# Altium schematic symbol library 3D_MIG_Controller.SCHLIB: 528 symbols (part 2 of 6)
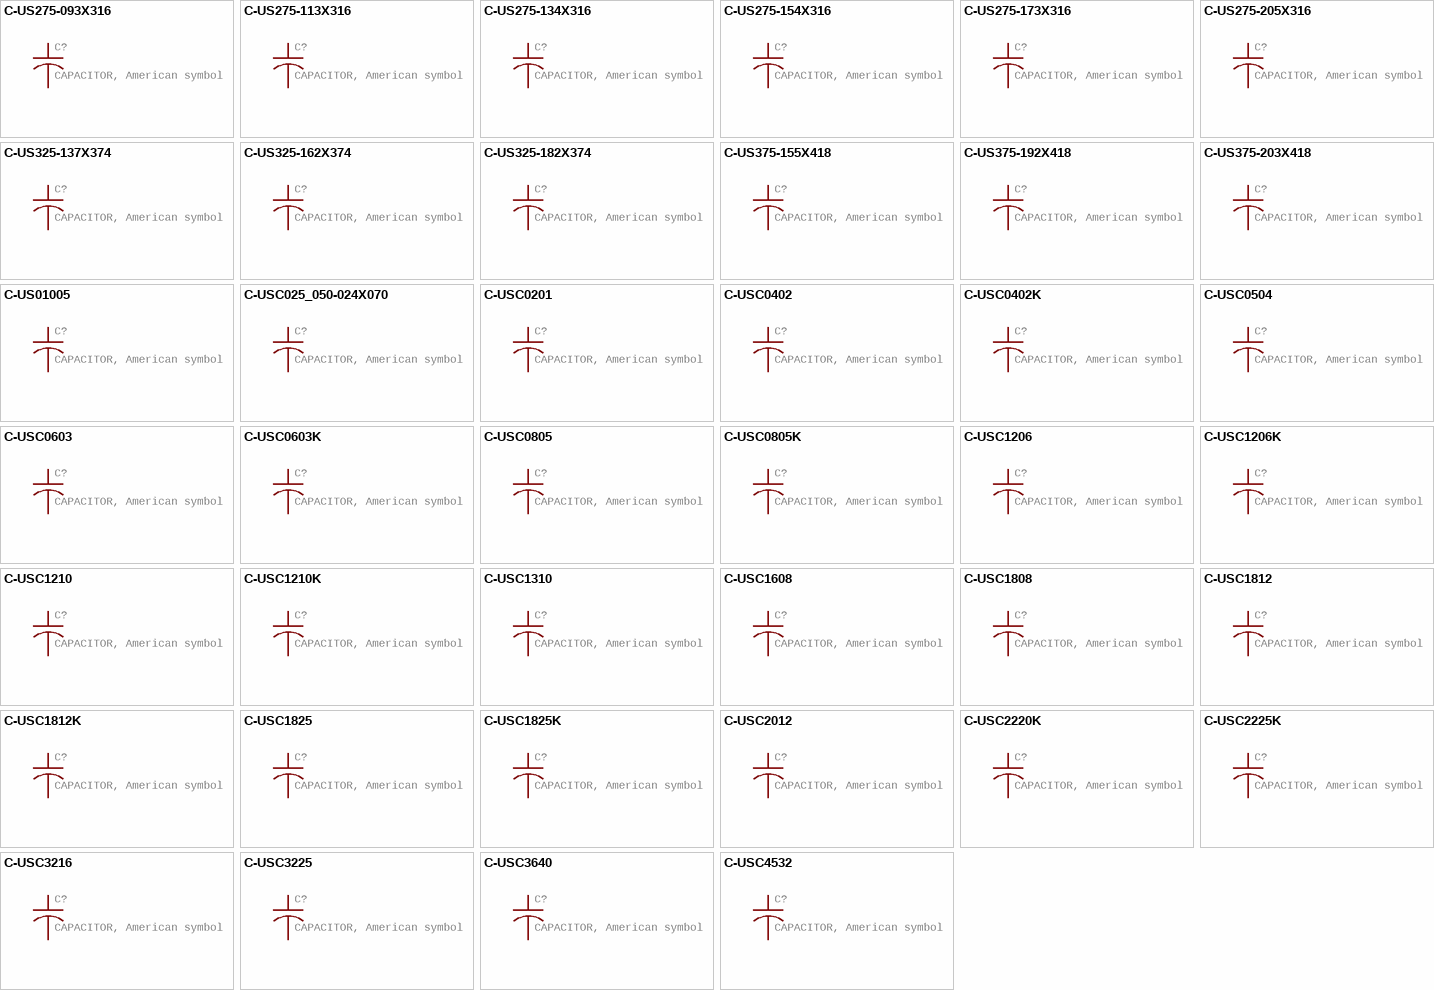
[diagram p33: symbols C-US275-093X316 to C-USC4532]

## C-USC0504
designator C?, comment CAPACITOR, American symbol
GateName_1: G$1; SymbolName_1: C-US-1; DeviceName: C0504; DeviceSetName: C-US; LibraryName: 3D_MIG_Controller; Package: C0504
footprint C0504
pins: 1, 2

## C-USC0603
designator C?, comment CAPACITOR, American symbol
GateName_1: G$1; SymbolName_1: C-US-1; DeviceName: C0603; DeviceSetName: C-US; LibraryName: 3D_MIG_Controller; Package: C0603
footprint C0603
pins: 1, 2

## C-USC0603K
designator C?, comment CAPACITOR, American symbol
GateName_1: G$1; SymbolName_1: C-US-1; DeviceName: C0603K; DeviceSetName: C-US; LibraryName: 3D_MIG_Controller; Package: C0603K
footprint C0603K
pins: 1, 2

## C-USC0805
designator C?, comment CAPACITOR, American symbol
GateName_1: G$1; SymbolName_1: C-US-1; DeviceName: C0805; DeviceSetName: C-US; LibraryName: 3D_MIG_Controller; Package: C0805
footprint C0805
pins: 1, 2

## C-USC0805K
designator C?, comment CAPACITOR, American symbol
GateName_1: G$1; SymbolName_1: C-US-1; DeviceName: C0805K; DeviceSetName: C-US; LibraryName: 3D_MIG_Controller; Package: C0805K
footprint C0805K
pins: 1, 2

## C-USC1206
designator C?, comment CAPACITOR, American symbol
GateName_1: G$1; SymbolName_1: C-US-1; DeviceName: C1206; DeviceSetName: C-US; LibraryName: 3D_MIG_Controller; Package: C1206
footprint C1206
pins: 1, 2

## C-USC1206K
designator C?, comment CAPACITOR, American symbol
GateName_1: G$1; SymbolName_1: C-US-1; DeviceName: C1206K; DeviceSetName: C-US; LibraryName: 3D_MIG_Controller; Package: C1206K
footprint C1206K
pins: 1, 2

## C-USC1210
designator C?, comment CAPACITOR, American symbol
GateName_1: G$1; SymbolName_1: C-US-1; DeviceName: C1210; DeviceSetName: C-US; LibraryName: 3D_MIG_Controller; Package: C1210
footprint C1210
pins: 1, 2

## C-USC1210K
designator C?, comment CAPACITOR, American symbol
GateName_1: G$1; SymbolName_1: C-US-1; DeviceName: C1210K; DeviceSetName: C-US; LibraryName: 3D_MIG_Controller; Package: C1210K
footprint C1210K
pins: 1, 2

## C-USC1310
designator C?, comment CAPACITOR, American symbol
GateName_1: G$1; SymbolName_1: C-US-1; DeviceName: C1310; DeviceSetName: C-US; LibraryName: 3D_MIG_Controller; Package: C1310
footprint C1310
pins: 1, 2

## C-USC1608
designator C?, comment CAPACITOR, American symbol
GateName_1: G$1; SymbolName_1: C-US-1; DeviceName: C1608; DeviceSetName: C-US; LibraryName: 3D_MIG_Controller; Package: C1608
footprint C1608
pins: 1, 2

## C-USC1808
designator C?, comment CAPACITOR, American symbol
GateName_1: G$1; SymbolName_1: C-US-1; DeviceName: C1808; DeviceSetName: C-US; LibraryName: 3D_MIG_Controller; Package: C1808
footprint C1808
pins: 1, 2

## C-USC1812
designator C?, comment CAPACITOR, American symbol
GateName_1: G$1; SymbolName_1: C-US-1; DeviceName: C1812; DeviceSetName: C-US; LibraryName: 3D_MIG_Controller; Package: C1812
footprint C1812
pins: 1, 2

## C-USC1812K
designator C?, comment CAPACITOR, American symbol
GateName_1: G$1; SymbolName_1: C-US-1; DeviceName: C1812K; DeviceSetName: C-US; LibraryName: 3D_MIG_Controller; Package: C1812K
footprint C1812K
pins: 1, 2

## C-USC1825
designator C?, comment CAPACITOR, American symbol
GateName_1: G$1; SymbolName_1: C-US-1; DeviceName: C1825; DeviceSetName: C-US; LibraryName: 3D_MIG_Controller; Package: C1825
footprint C1825
pins: 1, 2

## C-USC1825K
designator C?, comment CAPACITOR, American symbol
GateName_1: G$1; SymbolName_1: C-US-1; DeviceName: C1825K; DeviceSetName: C-US; LibraryName: 3D_MIG_Controller; Package: C1825K
footprint C1825K
pins: 1, 2

## C-USC2012
designator C?, comment CAPACITOR, American symbol
GateName_1: G$1; SymbolName_1: C-US-1; DeviceName: C2012; DeviceSetName: C-US; LibraryName: 3D_MIG_Controller; Package: C2012
footprint C2012
pins: 1, 2

## C-USC2220K
designator C?, comment CAPACITOR, American symbol
GateName_1: G$1; SymbolName_1: C-US-1; DeviceName: C2220K; DeviceSetName: C-US; LibraryName: 3D_MIG_Controller; Package: C2220K
footprint C2220K
pins: 1, 2

## C-USC2225K
designator C?, comment CAPACITOR, American symbol
GateName_1: G$1; SymbolName_1: C-US-1; DeviceName: C2225K; DeviceSetName: C-US; LibraryName: 3D_MIG_Controller; Package: C2225K
footprint C2225K
pins: 1, 2

## C-USC3216
designator C?, comment CAPACITOR, American symbol
GateName_1: G$1; SymbolName_1: C-US-1; DeviceName: C3216; DeviceSetName: C-US; LibraryName: 3D_MIG_Controller; Package: C3216
footprint C3216
pins: 1, 2

## C-USC3225
designator C?, comment CAPACITOR, American symbol
GateName_1: G$1; SymbolName_1: C-US-1; DeviceName: C3225; DeviceSetName: C-US; LibraryName: 3D_MIG_Controller; Package: C3225
footprint C3225
pins: 1, 2

## C-USC3640
designator C?, comment CAPACITOR, American symbol
GateName_1: G$1; SymbolName_1: C-US-1; DeviceName: C3640; DeviceSetName: C-US; LibraryName: 3D_MIG_Controller; Package: C3640
footprint C3640
pins: 1, 2

## C-USC4532
designator C?, comment CAPACITOR, American symbol
GateName_1: G$1; SymbolName_1: C-US-1; DeviceName: C4532; DeviceSetName: C-US; LibraryName: 3D_MIG_Controller; Package: C4532
footprint C4532
pins: 1, 2

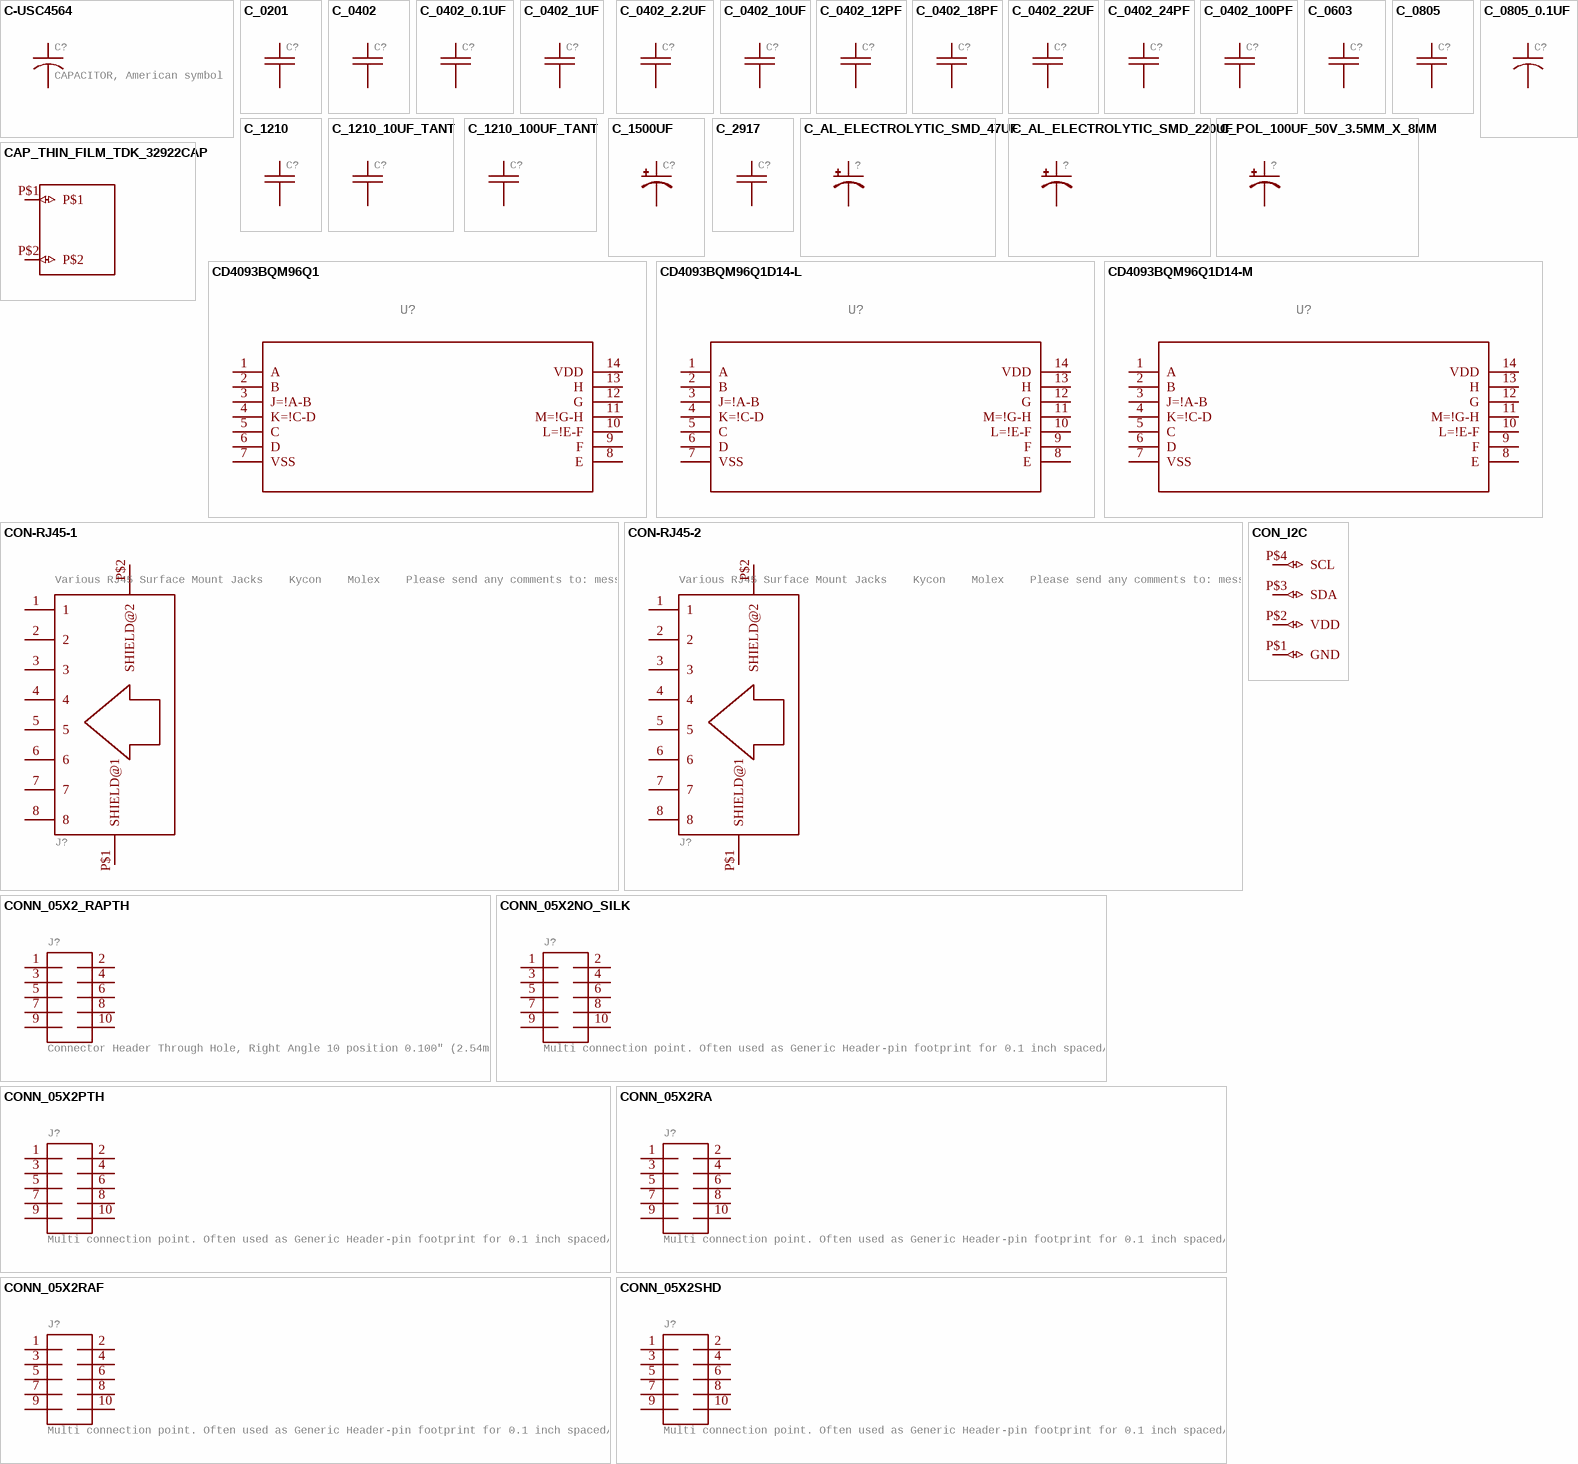
[diagram p6: symbols C-USC4564 to CONN_05X2SHD]

## C-USC4564
designator C?, comment CAPACITOR, American symbol
GateName_1: G$1; SymbolName_1: C-US-1; DeviceName: C4564; DeviceSetName: C-US; LibraryName: 3D_MIG_Controller; Package: C4564
footprint C4564
pins: 1, 2

## C_0201
designator C?
PARTNO: a1; GateName_1: G$1; SymbolName_1: CAP_NON_POLARIZED; DeviceSetName: C_0201; LibraryName: 3D_MIG_Controller; Package: 0201
footprint 0201
pins: P$1 1, P$2 2

## C_0402
designator C?
GateName_1: G$1; SymbolName_1: CAP_NON_POLARIZED; DeviceSetName: C_0402; LibraryName: 3D_MIG_Controller; Package: 0402
footprint 0402
pins: P$1 1, P$2 2

## C_0402_0.1UF
designator C?
PARTNO: CL05F104ZO5NNNC; GateName_1: G$1; SymbolName_1: CAP_NON_POLARIZED; DeviceSetName: C_0402_0.1UF; LibraryName: 3D_MIG_Controller; Package: 0402
footprint 0402
pins: P$1 1, P$2 2

## C_0402_1UF
designator C?
PARTNO: CL05A105KO5NNNC; GateName_1: G$1; SymbolName_1: CAP_NON_POLARIZED; DeviceSetName: C_0402_1UF; LibraryName: 3D_MIG_Controller; Package: 0402
footprint 0402
pins: P$1 1, P$2 2

## C_0402_2.2UF
designator C?
PARTNO: GRM155C81C225ME15D; GateName_1: G$1; SymbolName_1: CAP_NON_POLARIZED; DeviceSetName: C_0402_2.2UF; LibraryName: 3D_MIG_Controller; Package: 0402
footprint 0402
pins: P$1 1, P$2 2

## C_0402_10UF
designator C?
PARTNO: CL05A106MP8NUB8; GateName_1: G$1; SymbolName_1: CAP_NON_POLARIZED; DeviceSetName: C_0402_10UF; LibraryName: 3D_MIG_Controller; Package: 0402
footprint 0402
pins: P$1 1, P$2 2

## C_0402_12PF
designator C?
PARTNO: CL05C120JB5NNNC; GateName_1: G$1; SymbolName_1: CAP_NON_POLARIZED; DeviceSetName: C_0402_12PF; LibraryName: 3D_MIG_Controller; Package: 0402
footprint 0402
pins: P$1 1, P$2 2

## C_0402_18PF
designator C?
PARTNO: UMK105CG180JV-F; GateName_1: G$1; SymbolName_1: CAP_NON_POLARIZED; DeviceSetName: C_0402_18PF; LibraryName: 3D_MIG_Controller; Package: 0402
footprint 0402
pins: P$1 1, P$2 2

## C_0402_22UF
designator C?
PARTNO: CL05A226MQ5N6J8; GateName_1: G$1; SymbolName_1: CAP_NON_POLARIZED; DeviceSetName: C_0402_22UF; LibraryName: 3D_MIG_Controller; Package: 0402
footprint 0402
pins: P$1 1, P$2 2

## C_0402_24PF
designator C?
PARTNO: CC0402GRNPO9BN240; GateName_1: G$1; SymbolName_1: CAP_NON_POLARIZED; DeviceSetName: C_0402_24PF; LibraryName: 3D_MIG_Controller; Package: 0402
footprint 0402
pins: P$1 1, P$2 2

## C_0402_100PF
designator C?
PARTNO: CL05C101JB5NNNC; GateName_1: G$1; SymbolName_1: CAP_NON_POLARIZED; DeviceSetName: C_0402_100PF; LibraryName: 3D_MIG_Controller; Package: 0402
footprint 0402
pins: P$1 1, P$2 2

## C_0603
designator C?
GateName_1: G$1; SymbolName_1: CAP_NON_POLARIZED; DeviceSetName: C_0603; LibraryName: 3D_MIG_Controller; Package: 0603
footprint 0603
pins: 1, 2

## C_0805
designator C?
GateName_1: G$1; SymbolName_1: CAP_NON_POLARIZED; DeviceSetName: C_0805; LibraryName: 3D_MIG_Controller; Package: 0805
footprint 0805
pins: 1, 2

## C_0805_0.1UF
designator C?
GateName_1: G$1; SymbolName_1: C_0805_0.1UF; LibraryName: 3D_MIG_Controller; DeviceSetName: C_0805_0.1UF; Package: 0805
footprint 0805
pins: 1, 2

## C_1210
designator C?
PARTNO: TL8A0107M010D; GateName_1: G$1; SymbolName_1: CAP_NON_POLARIZED; DeviceSetName: C_1210; LibraryName: 3D_MIG_Controller; Package: C1210
footprint C1210
pins: 1, 2

## C_1210_10UF_TANT
designator C?
PARTNO: TPST106K016H0800; GateName_1: G$1; SymbolName_1: CAP_NON_POLARIZED; DeviceSetName: C_1210_10UF_TANT; LibraryName: 3D_MIG_Controller; Package: C1210
footprint C1210
pins: 1, 2

## C_1210_100UF_TANT
designator C?
PARTNO: TLJT107M010R0900; GateName_1: G$1; SymbolName_1: CAP_NON_POLARIZED; DeviceSetName: C_1210_100UF_TANT; LibraryName: 3D_MIG_Controller; Package: C1210
footprint C1210
pins: 1, 2

## C_1500UF
designator C?
MANUFACTURER_PART_NUMBER: SLP152M250H9P3; GateName_1: G$1; SymbolName_1: CAP_POLARIZED; DeviceSetName: C_1500UF; BUILT_BY: EMA_Kyle; SOURCELIBRARY: Add_to_database_2021-04-21; VENDOR: Cornell Dubilier; LibraryName: 3D_MIG_Controller; Package: CAP_SLP152M250H9P3_CND; COPYRIGHT: Copyright (C) 2018 Accelerated Designs. All rights reserved; DATASHEET: https://www.cde.com/resources/catalogs/SLP.pdf
footprint CAP_SLP152M250H9P3_CND
pins: 1 +, 2 -

## C_2917
designator C?
GateName_1: G$1; SymbolName_1: CAP_NON_POLARIZED; DeviceSetName: C_2917; LibraryName: 3D_MIG_Controller; Package: C2917
footprint C2917
pins: 1, 2

## C_AL_ELECTROLYTIC_SMD_47UF
designator ?
GateName_1: G$1; SymbolName_1: C_AL_ELECTROLYTIC_SMD_47UF; LibraryName: 3D_MIG_Controller; DeviceSetName: C_AL_ELECTROLYTIC_SMD_47UF; Package: C_AL_ELECTROLYTIC_SMD_47UF
footprint C_AL_ELECTROLYTIC_SMD_47UF
pins: P$1 -, P$2 +

## C_AL_ELECTROLYTIC_SMD_220UF
designator ?
GateName_1: G$1; SymbolName_1: CAP_POLARIZED; DeviceSetName: C_AL_ELECTROLYTIC_SMD_220UF; LibraryName: 3D_MIG_Controller; Package: C_AL_ELECTROLYTIC_SMD_220UF
footprint C_AL_ELECTROLYTIC_SMD_220UF
pins: N- -, P+ +

## C_POL_100UF_50V_3.5MM_X_8MM
designator ?
GateName_1: G$1; SymbolName_1: CPOL-US-100UF-50V-8MM; DeviceSetName: C_POL_100UF_50V_3.5MM_X_8MM; LibraryName: 3D_MIG_Controller; Package: C_POL_100UF_3.5MM_X_8MM
footprint C_POL_100UF_3.5MM_X_8MM
pins: +, -

## CAP_THIN_FILM_TDK_32922CAP
designator C?
GateName_1: G$1; SymbolName_1: CAP_THIN_FILM_32922; DeviceName: CAP; DeviceSetName: CAP_THIN_FILM_TDK_32922; LibraryName: 3D_MIG_Controller; Package: CAP_THIN_FILM_32922
footprint CAP_THIN_FILM_32922
pins: P$1 (io), P$2 (io)

## CD4093BQM96Q1
designator U?
GENERIC_PART_NUMBER: CD4093B-Q1; MANUFACTURER: Texas Instruments; GateName_1: A; SymbolName_1: CD4093B-Q1_D_14; DeviceSetName: CD4093BQM96Q1; DESCRIPTION: Automotive Catalog CMOS Quad 2-Input NAND Schmitt Triggers; FAMILY_NAME: NAND GATE; INDUSTRY_STD_PKG_TYPE: SOIC; PACKAGE_DESIGNATOR: D; PIN_COUNT: 14; LibraryName: 3D_MIG_Controller; Package: D14; DATASHEET_URL: http://www.ti.com/lit/gpn/CD4093B-Q1
footprint D14
pins: 1 A, 2 B, 3 J=!A-B, 4 K=!C-D, 5 C, 6 D, 7 VSS (power), 8 E, 9 F, 10 L=!E-F, 11 M=!G-H, 12 G, 13 H, 14 VDD (power)

## CD4093BQM96Q1D14-L
designator U?
GENERIC_PART_NUMBER: CD4093B-Q1; MANUFACTURER: Texas Instruments; GateName_1: A; SymbolName_1: CD4093B-Q1_D_14; DeviceName: D14-L; DeviceSetName: CD4093BQM96Q1; DESCRIPTION: Automotive Catalog CMOS Quad 2-Input NAND Schmitt Triggers; FAMILY_NAME: NAND GATE; INDUSTRY_STD_PKG_TYPE: SOIC; PACKAGE_DESIGNATOR: D; PIN_COUNT: 14; LibraryName: 3D_MIG_Controller; Package: D14-L; DATASHEET_URL: http://www.ti.com/lit/gpn/CD4093B-Q1
footprint D14-L
pins: 1 A, 2 B, 3 J=!A-B, 4 K=!C-D, 5 C, 6 D, 7 VSS (power), 8 E, 9 F, 10 L=!E-F, 11 M=!G-H, 12 G, 13 H, 14 VDD (power)

## CD4093BQM96Q1D14-M
designator U?
GENERIC_PART_NUMBER: CD4093B-Q1; MANUFACTURER: Texas Instruments; GateName_1: A; SymbolName_1: CD4093B-Q1_D_14; DeviceName: D14-M; DeviceSetName: CD4093BQM96Q1; DESCRIPTION: Automotive Catalog CMOS Quad 2-Input NAND Schmitt Triggers; FAMILY_NAME: NAND GATE; INDUSTRY_STD_PKG_TYPE: SOIC; PACKAGE_DESIGNATOR: D; PIN_COUNT: 14; LibraryName: 3D_MIG_Controller; Package: D14-M; DATASHEET_URL: http://www.ti.com/lit/gpn/CD4093B-Q1
footprint D14-M
pins: 1 A, 2 B, 3 J=!A-B, 4 K=!C-D, 5 C, 6 D, 7 VSS (power), 8 E, 9 F, 10 L=!E-F, 11 M=!G-H, 12 G, 13 H, 14 VDD (power)

## CON-RJ45-1
designator J?, comment Various RJ45 Surface Mount Jacks    Kycon    Molex    Please send any comments to: messi@users.sourceforge.net
GateName_1: G$1; SymbolName_1: CON-RJ45; DeviceName: -1; LibraryName: 3D_MIG_Controller; DeviceSetName: CON-RJ45; Package: GM-SMT2-S2-88
footprint GM-SMT2-S2-88
pins: 1, 2, 3, 4, 5, 6, 7, 8, P$1 SHIELD@1, P$2 SHIELD@2

## CON-RJ45-2
designator J?, comment Various RJ45 Surface Mount Jacks    Kycon    Molex    Please send any comments to: messi@users.sourceforge.net
GateName_1: G$1; SymbolName_1: CON-RJ45; DeviceName: -2; LibraryName: 3D_MIG_Controller; DeviceSetName: CON-RJ45; Package: CON-85543-0001
footprint CON-85543-0001
pins: 1, 2, 3, 4, 5, 6, 7, 8, P$1 SHIELD@1, P$2 SHIELD@2

## CON_I2C
designator ?
GateName_1: G$1; SymbolName_1: CON_I2C; LibraryName: 3D_MIG_Controller; DeviceSetName: CON_I2C; Package: 1X4_.1_INCH_HEADER
footprint 1X4_.1_INCH_HEADER
pins: P$1 GND (io), P$2 VDD (io), P$3 SDA (io), P$4 SCL (io)

## CONN_05X2_RAPTH
designator J?, comment Connector Header Through Hole, Right Angle 10 position 0.100" (2.54mm)
PARTNO: PH2RA-10-UA; GateName_1: G$1; SymbolName_1: CONN_05X2; DeviceName: PTH; DeviceSetName: CONN_05X2_RA; LibraryName: 3D_MIG_Controller; Package: 2X5
footprint 2X5
pins: 1, 2, 3, 4, 5, 6, 7, 8, 9, 10

## CONN_05X2NO_SILK
designator J?, comment Multi connection point. Often used as Generic Header-pin footprint for 0.1 inch spaced/style header connections     For AVR SPI programming port, see special device with nice symbol: "AVR_SPI_PROG_5x2.dev"    You can populate with any combo of single row headers, but if you'd like an exact match, check these:  2x5 AVR ICSP Male Header (PRT-00778)   2x5 Pin Shrouded Header (PRT-08506)       On any of the 0.1 inch spaced packages, you can populate with these:  Break Away Headers - Straight (PRT-00116)   Break Away Male Headers - Right Angle (PRT-00553)   Female Headers (PRT-00115)   Break Away Headers - Machine Pin (PRT-00117)   Break Away Female Headers - Swiss Machine Pin (PRT-00743)       Special note: the shrouded connector mates well with our 5x2 ribbon cables:  2x5 Pin IDC Ribbon Cable (PRT-08535)
GateName_1: G$1; SymbolName_1: CONN_05X2; DeviceName: NO_SILK; LibraryName: 3D_MIG_Controller; DeviceSetName: CONN_05X2; Package: 2X5_NOSILK
footprint 2X5_NOSILK
pins: 1, 2, 3, 4, 5, 6, 7, 8, 9, 10

## CONN_05X2PTH
designator J?, comment Multi connection point. Often used as Generic Header-pin footprint for 0.1 inch spaced/style header connections     For AVR SPI programming port, see special device with nice symbol: "AVR_SPI_PROG_5x2.dev"    You can populate with any combo of single row headers, but if you'd like an exact match, check these:  2x5 AVR ICSP Male Header (PRT-00778)   2x5 Pin Shrouded Header (PRT-08506)       On any of the 0.1 inch spaced packages, you can populate with these:  Break Away Headers - Straight (PRT-00116)   Break Away Male Headers - Right Angle (PRT-00553)   Female Headers (PRT-00115)   Break Away Headers - Machine Pin (PRT-00117)   Break Away Female Headers - Swiss Machine Pin (PRT-00743)       Special note: the shrouded connector mates well with our 5x2 ribbon cables:  2x5 Pin IDC Ribbon Cable (PRT-08535)
GateName_1: G$1; SymbolName_1: CONN_05X2; DeviceName: PTH; PROD_ID: CONN-08499; LibraryName: 3D_MIG_Controller; DeviceSetName: CONN_05X2; Package: 2X5; SF_ID: PRT-0778
footprint 2X5
pins: 1, 2, 3, 4, 5, 6, 7, 8, 9, 10

## CONN_05X2RA
designator J?, comment Multi connection point. Often used as Generic Header-pin footprint for 0.1 inch spaced/style header connections     For AVR SPI programming port, see special device with nice symbol: "AVR_SPI_PROG_5x2.dev"    You can populate with any combo of single row headers, but if you'd like an exact match, check these:  2x5 AVR ICSP Male Header (PRT-00778)   2x5 Pin Shrouded Header (PRT-08506)       On any of the 0.1 inch spaced packages, you can populate with these:  Break Away Headers - Straight (PRT-00116)   Break Away Male Headers - Right Angle (PRT-00553)   Female Headers (PRT-00115)   Break Away Headers - Machine Pin (PRT-00117)   Break Away Female Headers - Swiss Machine Pin (PRT-00743)       Special note: the shrouded connector mates well with our 5x2 ribbon cables:  2x5 Pin IDC Ribbon Cable (PRT-08535)
GateName_1: G$1; SymbolName_1: CONN_05X2; DeviceName: RA; LibraryName: 3D_MIG_Controller; DeviceSetName: CONN_05X2; Package: 2X5-RA
footprint 2X5-RA
pins: 1, 2, 3, 4, 5, 6, 7, 8, 9, 10

## CONN_05X2RAF
designator J?, comment Multi connection point. Often used as Generic Header-pin footprint for 0.1 inch spaced/style header connections     For AVR SPI programming port, see special device with nice symbol: "AVR_SPI_PROG_5x2.dev"    You can populate with any combo of single row headers, but if you'd like an exact match, check these:  2x5 AVR ICSP Male Header (PRT-00778)   2x5 Pin Shrouded Header (PRT-08506)       On any of the 0.1 inch spaced packages, you can populate with these:  Break Away Headers - Straight (PRT-00116)   Break Away Male Headers - Right Angle (PRT-00553)   Female Headers (PRT-00115)   Break Away Headers - Machine Pin (PRT-00117)   Break Away Female Headers - Swiss Machine Pin (PRT-00743)       Special note: the shrouded connector mates well with our 5x2 ribbon cables:  2x5 Pin IDC Ribbon Cable (PRT-08535)
GateName_1: G$1; SymbolName_1: CONN_05X2; DeviceName: RAF; LibraryName: 3D_MIG_Controller; DeviceSetName: CONN_05X2; Package: 2X5-RAF
footprint 2X5-RAF
pins: 1, 2, 3, 4, 5, 6, 7, 8, 9, 10

## CONN_05X2SHD
designator J?, comment Multi connection point. Often used as Generic Header-pin footprint for 0.1 inch spaced/style header connections     For AVR SPI programming port, see special device with nice symbol: "AVR_SPI_PROG_5x2.dev"    You can populate with any combo of single row headers, but if you'd like an exact match, check these:  2x5 AVR ICSP Male Header (PRT-00778)   2x5 Pin Shrouded Header (PRT-08506)       On any of the 0.1 inch spaced packages, you can populate with these:  Break Away Headers - Straight (PRT-00116)   Break Away Male Headers - Right Angle (PRT-00553)   Female Headers (PRT-00115)   Break Away Headers - Machine Pin (PRT-00117)   Break Away Female Headers - Swiss Machine Pin (PRT-00743)       Special note: the shrouded connector mates well with our 5x2 ribbon cables:  2x5 Pin IDC Ribbon Cable (PRT-08535)
GateName_1: G$1; SymbolName_1: CONN_05X2; DeviceName: SHD; PROD_ID: CONN-08671; LibraryName: 3D_MIG_Controller; DeviceSetName: CONN_05X2; Package: 2X5-SHROUDED; SF_ID: PRT-08506
footprint 2X5-SHROUDED
pins: 1, 2, 3, 4, 5, 6, 7, 8, 9, 10

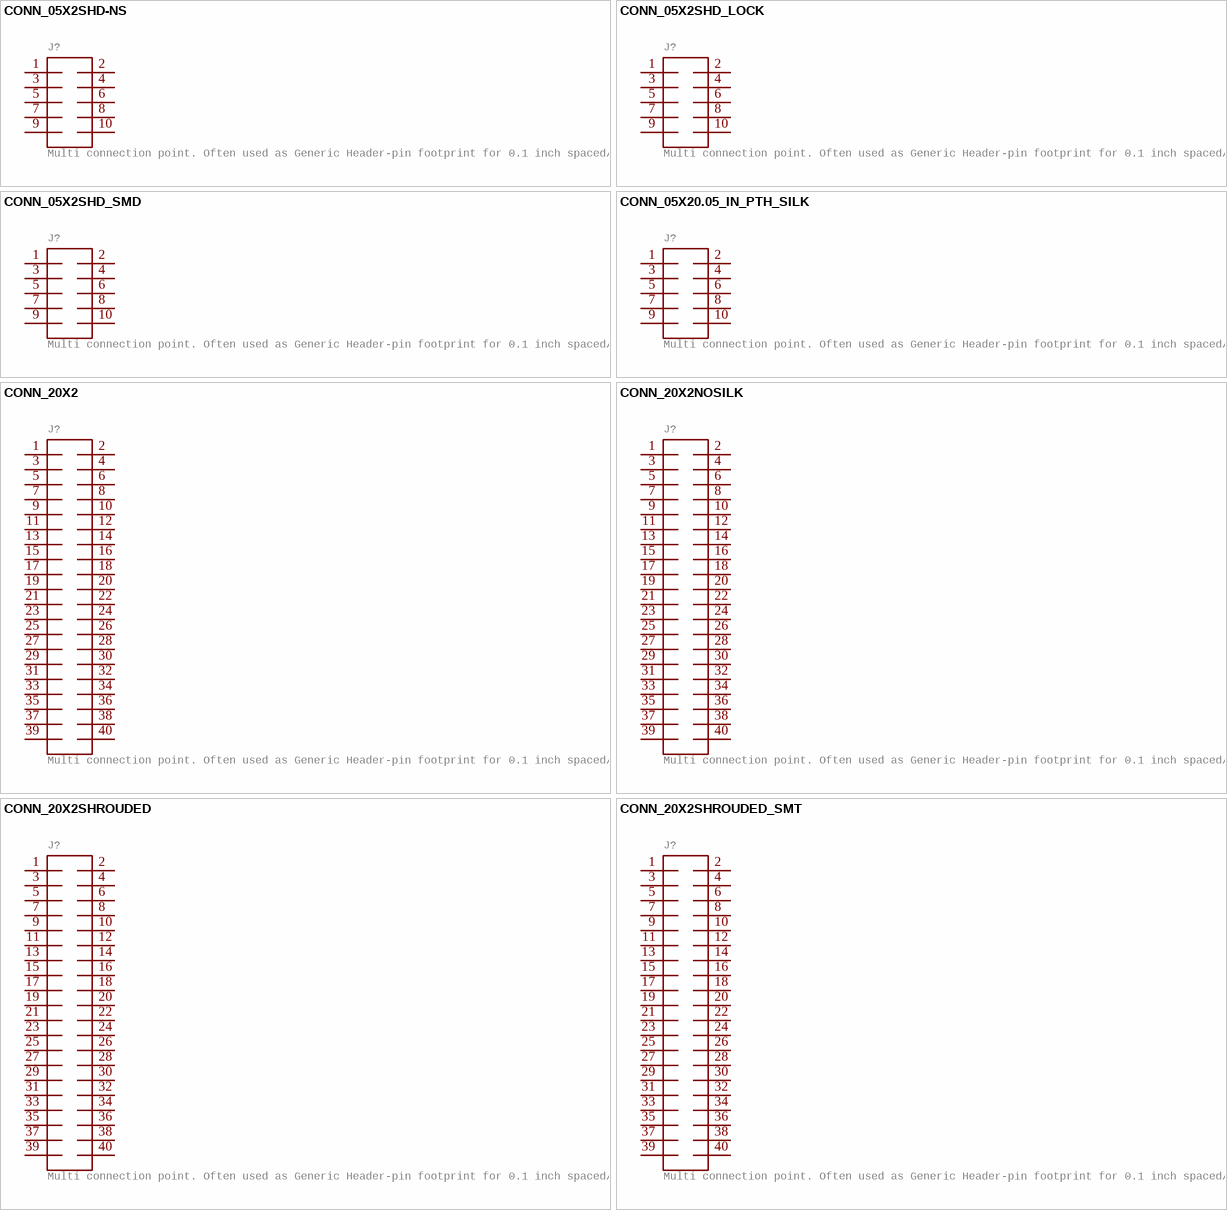
[diagram p7: symbols CONN_05X2SHD-NS to CONN_20X2SHROUDED_SMT]

## CONN_05X2SHD-NS
designator J?, comment Multi connection point. Often used as Generic Header-pin footprint for 0.1 inch spaced/style header connections     For AVR SPI programming port, see special device with nice symbol: "AVR_SPI_PROG_5x2.dev"    You can populate with any combo of single row headers, but if you'd like an exact match, check these:  2x5 AVR ICSP Male Header (PRT-00778)   2x5 Pin Shrouded Header (PRT-08506)       On any of the 0.1 inch spaced packages, you can populate with these:  Break Away Headers - Straight (PRT-00116)   Break Away Male Headers - Right Angle (PRT-00553)   Female Headers (PRT-00115)   Break Away Headers - Machine Pin (PRT-00117)   Break Away Female Headers - Swiss Machine Pin (PRT-00743)       Special note: the shrouded connector mates well with our 5x2 ribbon cables:  2x5 Pin IDC Ribbon Cable (PRT-08535)
GateName_1: G$1; SymbolName_1: CONN_05X2; DeviceName: SHD-NS; PROD_ID: CONN-08671; LibraryName: 3D_MIG_Controller; DeviceSetName: CONN_05X2; Package: 2X5-SHROUDED-NS; SF_ID: PRT-08506
footprint 2X5-SHROUDED-NS
pins: 1, 2, 3, 4, 5, 6, 7, 8, 9, 10

## CONN_05X2SHD_LOCK
designator J?, comment Multi connection point. Often used as Generic Header-pin footprint for 0.1 inch spaced/style header connections     For AVR SPI programming port, see special device with nice symbol: "AVR_SPI_PROG_5x2.dev"    You can populate with any combo of single row headers, but if you'd like an exact match, check these:  2x5 AVR ICSP Male Header (PRT-00778)   2x5 Pin Shrouded Header (PRT-08506)       On any of the 0.1 inch spaced packages, you can populate with these:  Break Away Headers - Straight (PRT-00116)   Break Away Male Headers - Right Angle (PRT-00553)   Female Headers (PRT-00115)   Break Away Headers - Machine Pin (PRT-00117)   Break Away Female Headers - Swiss Machine Pin (PRT-00743)       Special note: the shrouded connector mates well with our 5x2 ribbon cables:  2x5 Pin IDC Ribbon Cable (PRT-08535)
GateName_1: G$1; SymbolName_1: CONN_05X2; DeviceName: SHD_LOCK; PROD_ID: CONN-08671; LibraryName: 3D_MIG_Controller; DeviceSetName: CONN_05X2; Package: 2X5-SHROUDED_LOCK; SF_ID: PRT-08506
footprint 2X5-SHROUDED_LOCK
pins: 1, 2, 3, 4, 5, 6, 7, 8, 9, 10

## CONN_05X2SHD_SMD
designator J?, comment Multi connection point. Often used as Generic Header-pin footprint for 0.1 inch spaced/style header connections     For AVR SPI programming port, see special device with nice symbol: "AVR_SPI_PROG_5x2.dev"    You can populate with any combo of single row headers, but if you'd like an exact match, check these:  2x5 AVR ICSP Male Header (PRT-00778)   2x5 Pin Shrouded Header (PRT-08506)       On any of the 0.1 inch spaced packages, you can populate with these:  Break Away Headers - Straight (PRT-00116)   Break Away Male Headers - Right Angle (PRT-00553)   Female Headers (PRT-00115)   Break Away Headers - Machine Pin (PRT-00117)   Break Away Female Headers - Swiss Machine Pin (PRT-00743)       Special note: the shrouded connector mates well with our 5x2 ribbon cables:  2x5 Pin IDC Ribbon Cable (PRT-08535)
GateName_1: G$1; SymbolName_1: CONN_05X2; DeviceName: SHD_SMD; PROD_ID: CONN-09508; LibraryName: 3D_MIG_Controller; DeviceSetName: CONN_05X2; Package: 2X5-SHROUDED_SMD
footprint 2X5-SHROUDED_SMD
pins: 1, 2, 3, 4, 5, 6, 7, 8, 9, 10

## CONN_05X20.05_IN_PTH_SILK
designator J?, comment Multi connection point. Often used as Generic Header-pin footprint for 0.1 inch spaced/style header connections     For AVR SPI programming port, see special device with nice symbol: "AVR_SPI_PROG_5x2.dev"    You can populate with any combo of single row headers, but if you'd like an exact match, check these:  2x5 AVR ICSP Male Header (PRT-00778)   2x5 Pin Shrouded Header (PRT-08506)       On any of the 0.1 inch spaced packages, you can populate with these:  Break Away Headers - Straight (PRT-00116)   Break Away Male Headers - Right Angle (PRT-00553)   Female Headers (PRT-00115)   Break Away Headers - Machine Pin (PRT-00117)   Break Away Female Headers - Swiss Machine Pin (PRT-00743)       Special note: the shrouded connector mates well with our 5x2 ribbon cables:  2x5 Pin IDC Ribbon Cable (PRT-08535)
GateName_1: G$1; SymbolName_1: CONN_05X2; DeviceName: 0.05_IN_PTH_SILK; LibraryName: 3D_MIG_Controller; DeviceSetName: CONN_05X2; Package: 2X5_PTH_SILK_.05
footprint 2X5_PTH_SILK_.05
pins: 1, 2, 3, 4, 5, 6, 7, 8, 9, 10

## CONN_20X2
designator J?, comment Multi connection point. Often used as Generic Header-pin footprint for 0.1 inch spaced/style header connections    On any of the 0.1 inch spaced packages, you can populate with these:  Break Away Headers - Straight (PRT-00116)   Break Away Male Headers - Right Angle (PRT-00553)   Female Headers (PRT-00115)   Break Away Headers - Machine Pin (PRT-00117)   Break Away Female Headers - Swiss Machine Pin (PRT-00743)
GateName_1: G$1; SymbolName_1: CONN_20X2; LibraryName: 3D_MIG_Controller; DeviceSetName: CONN_20X2; Package: 2X20
footprint 2X20
pins: 1, 2, 3, 4, 5, 6, 7, 8, 9, 10, 11, 12, 13, 14, 15, 16, 17, 18, 19, 20, 21, 22, 23, 24, 25, 26, 27, 28, 29, 30, 31, 32, 33, 34, 35, 36, 37, 38, 39, 40

## CONN_20X2NOSILK
designator J?, comment Multi connection point. Often used as Generic Header-pin footprint for 0.1 inch spaced/style header connections    On any of the 0.1 inch spaced packages, you can populate with these:  Break Away Headers - Straight (PRT-00116)   Break Away Male Headers - Right Angle (PRT-00553)   Female Headers (PRT-00115)   Break Away Headers - Machine Pin (PRT-00117)   Break Away Female Headers - Swiss Machine Pin (PRT-00743)
GateName_1: G$1; SymbolName_1: CONN_20X2; DeviceName: NOSILK; LibraryName: 3D_MIG_Controller; DeviceSetName: CONN_20X2; Package: 2X20_NOSILK
footprint 2X20_NOSILK
pins: 1, 2, 3, 4, 5, 6, 7, 8, 9, 10, 11, 12, 13, 14, 15, 16, 17, 18, 19, 20, 21, 22, 23, 24, 25, 26, 27, 28, 29, 30, 31, 32, 33, 34, 35, 36, 37, 38, 39, 40

## CONN_20X2SHROUDED
designator J?, comment Multi connection point. Often used as Generic Header-pin footprint for 0.1 inch spaced/style header connections    On any of the 0.1 inch spaced packages, you can populate with these:  Break Away Headers - Straight (PRT-00116)   Break Away Male Headers - Right Angle (PRT-00553)   Female Headers (PRT-00115)   Break Away Headers - Machine Pin (PRT-00117)   Break Away Female Headers - Swiss Machine Pin (PRT-00743)
GateName_1: G$1; SymbolName_1: CONN_20X2; DeviceName: SHROUDED; PROD_ID: CONN-12263; LibraryName: 3D_MIG_Controller; DeviceSetName: CONN_20X2; Package: 2X20_SHROUDED; SF_ID: CONN-12263
footprint 2X20_SHROUDED
pins: 1, 2, 3, 4, 5, 6, 7, 8, 9, 10, 11, 12, 13, 14, 15, 16, 17, 18, 19, 20, 21, 22, 23, 24, 25, 26, 27, 28, 29, 30, 31, 32, 33, 34, 35, 36, 37, 38, 39, 40

## CONN_20X2SHROUDED_SMT
designator J?, comment Multi connection point. Often used as Generic Header-pin footprint for 0.1 inch spaced/style header connections    On any of the 0.1 inch spaced packages, you can populate with these:  Break Away Headers - Straight (PRT-00116)   Break Away Male Headers - Right Angle (PRT-00553)   Female Headers (PRT-00115)   Break Away Headers - Machine Pin (PRT-00117)   Break Away Female Headers - Swiss Machine Pin (PRT-00743)
GateName_1: G$1; SymbolName_1: CONN_20X2; DeviceName: SHROUDED_SMT; PROD_ID: CONN-13143; LibraryName: 3D_MIG_Controller; DeviceSetName: CONN_20X2; Package: 2X20_SHROUDED_SMT
footprint 2X20_SHROUDED_SMT
pins: 1, 2, 3, 4, 5, 6, 7, 8, 9, 10, 11, 12, 13, 14, 15, 16, 17, 18, 19, 20, 21, 22, 23, 24, 25, 26, 27, 28, 29, 30, 31, 32, 33, 34, 35, 36, 37, 38, 39, 40

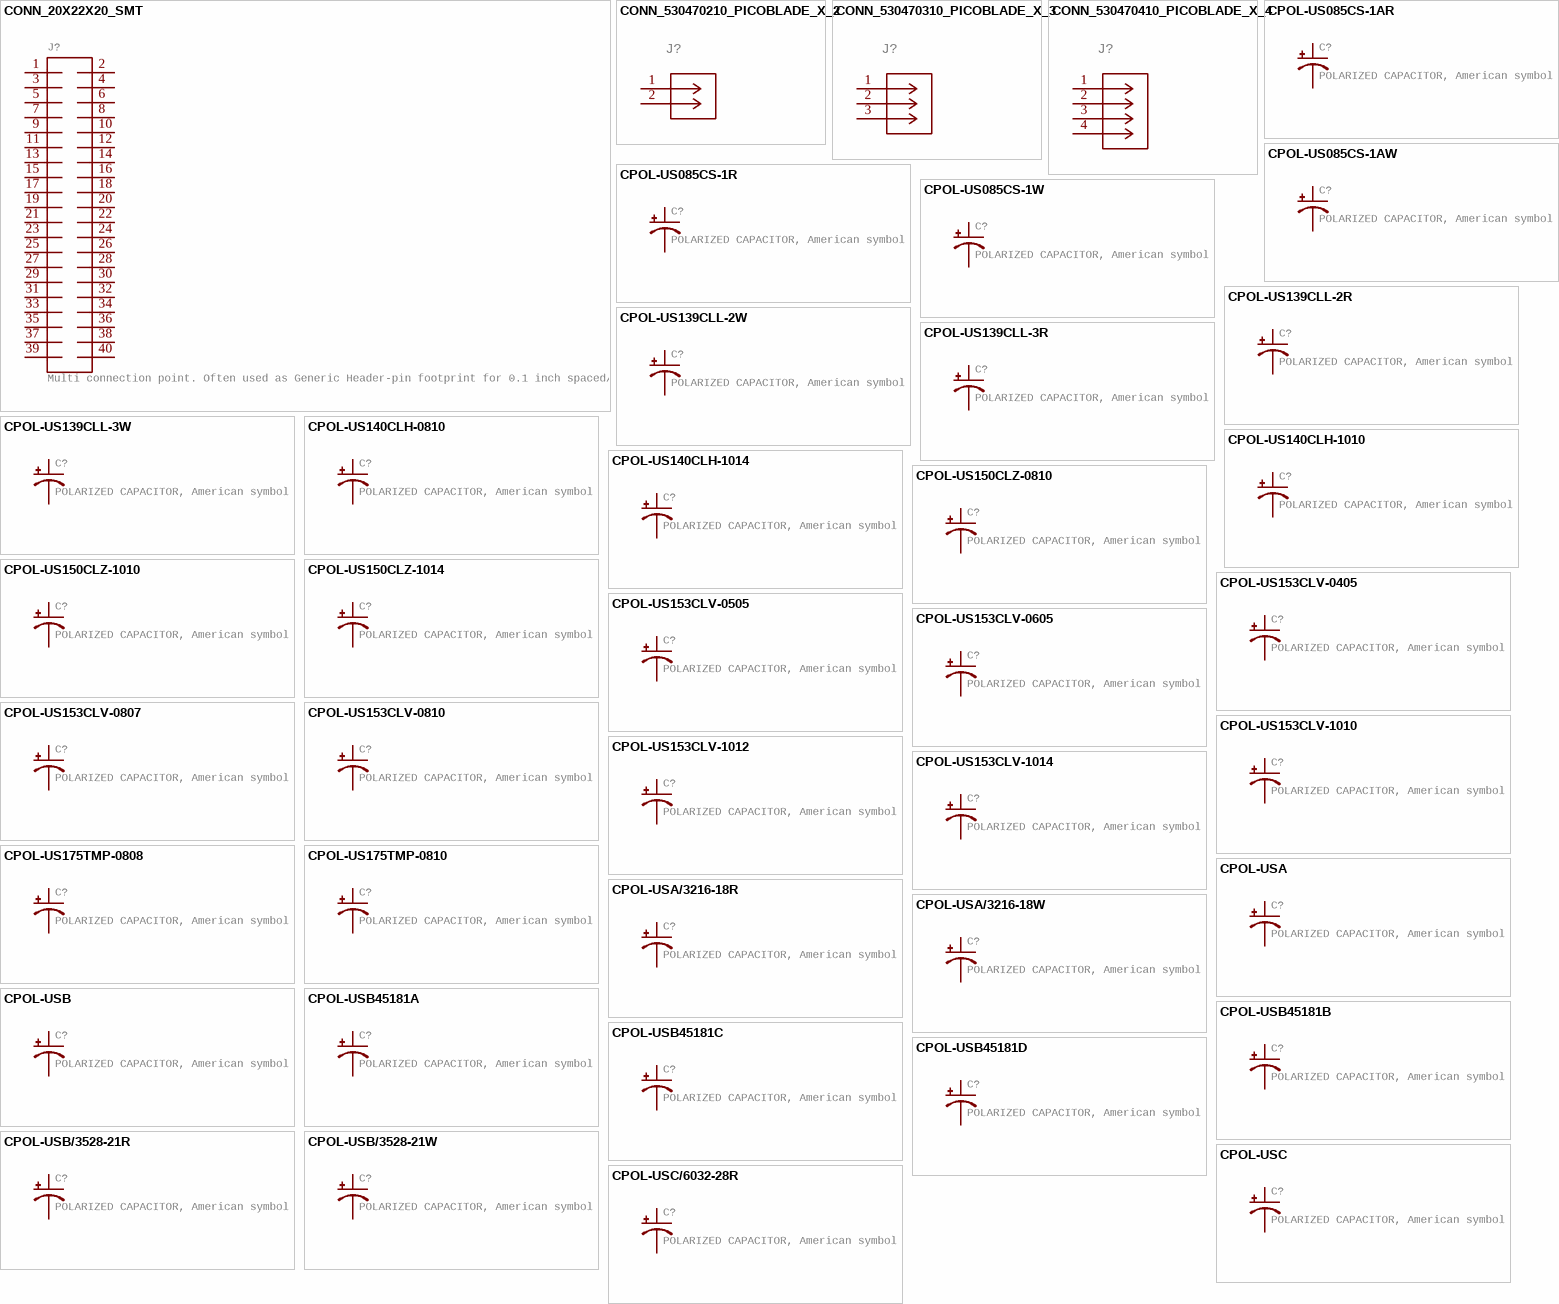
[diagram p8: symbols CONN_20X22X20_SMT to CPOL-USC/6032-28R]

## CONN_20X22X20_SMT
designator J?, comment Multi connection point. Often used as Generic Header-pin footprint for 0.1 inch spaced/style header connections    On any of the 0.1 inch spaced packages, you can populate with these:  Break Away Headers - Straight (PRT-00116)   Break Away Male Headers - Right Angle (PRT-00553)   Female Headers (PRT-00115)   Break Away Headers - Machine Pin (PRT-00117)   Break Away Female Headers - Swiss Machine Pin (PRT-00743)
GateName_1: G$1; SymbolName_1: CONN_20X2; DeviceName: 2X20_SMT; LibraryName: 3D_MIG_Controller; DeviceSetName: CONN_20X2; Package: 2X20_SMT
footprint 2X20_SMT
pins: 1, 2, 3, 4, 5, 6, 7, 8, 9, 10, 11, 12, 13, 14, 15, 16, 17, 18, 19, 20, 21, 22, 23, 24, 25, 26, 27, 28, 29, 30, 31, 32, 33, 34, 35, 36, 37, 38, 39, 40

## CONN_530470210_PICOBLADE_X_2
designator J?
MANUFACTURER_PART_NUMBER: 530470210; MFR_NAME: Molex Connector Corporation; GateName_1: A; SymbolName_1: CON_530470210; DeviceSetName: CONN_530470210_PICOBLADE_X_2; LibraryName: 3D_MIG_Controller; Package: CON_530470210_MOL; COPYRIGHT: Copyright (C) 2022 Ultra Librarian. All rights reserved.
footprint CON_530470210_MOL
pins: 1, 2

## CONN_530470310_PICOBLADE_X_3
designator J?
MANUFACTURER_PART_NUMBER: 530470310; MFR_NAME: Molex Connector Corporation; GateName_1: A; SymbolName_1: CON_530470310; DeviceSetName: CONN_530470310_PICOBLADE_X_3; LibraryName: 3D_MIG_Controller; Package: CON_530470310_MOL; COPYRIGHT: Copyright (C) 2022 Ultra Librarian. All rights reserved.
footprint CON_530470310_MOL
pins: 1, 2, 3

## CONN_530470410_PICOBLADE_X_4
designator J?
MANUFACTURER_PART_NUMBER: 530470410; MFR_NAME: Molex Connector Corporation; GateName_1: A; SymbolName_1: CON_530470410; DeviceSetName: CONN_530470410_PICOBLADE_X_4; LibraryName: 3D_MIG_Controller; Package: CON_530470410_MOL; COPYRIGHT: Copyright (C) 2022 Ultra Librarian. All rights reserved.
footprint CON_530470410_MOL
pins: 1, 2, 3, 4

## CPOL-US085CS-1AR
designator C?, comment POLARIZED CAPACITOR, American symbol
GateName_1: G$1; SymbolName_1: CAP_POLARIZED; DeviceName: 085CS-1AR; DeviceSetName: CPOL-US; LibraryName: 3D_MIG_Controller; Package: 085CS_1AR
footprint 085CS_1AR
pins: +, -

## CPOL-US085CS-1AW
designator C?, comment POLARIZED CAPACITOR, American symbol
GateName_1: G$1; SymbolName_1: CAP_POLARIZED; DeviceName: 085CS-1AW; DeviceSetName: CPOL-US; LibraryName: 3D_MIG_Controller; Package: 085CS_1AW
footprint 085CS_1AW
pins: +, -

## CPOL-US085CS-1R
designator C?, comment POLARIZED CAPACITOR, American symbol
GateName_1: G$1; SymbolName_1: CAP_POLARIZED; DeviceName: 085CS-1R; DeviceSetName: CPOL-US; LibraryName: 3D_MIG_Controller; Package: 085CS_1R
footprint 085CS_1R
pins: +, -

## CPOL-US085CS-1W
designator C?, comment POLARIZED CAPACITOR, American symbol
GateName_1: G$1; SymbolName_1: CAP_POLARIZED; DeviceName: 085CS-1W; DeviceSetName: CPOL-US; LibraryName: 3D_MIG_Controller; Package: 085CS_1W
footprint 085CS_1W
pins: +, -

## CPOL-US139CLL-2R
designator C?, comment POLARIZED CAPACITOR, American symbol
GateName_1: G$1; SymbolName_1: CAP_POLARIZED; DeviceName: 139CLL-2R; DeviceSetName: CPOL-US; LibraryName: 3D_MIG_Controller; Package: 139CLL-2R
footprint 139CLL-2R
pins: +, -

## CPOL-US139CLL-2W
designator C?, comment POLARIZED CAPACITOR, American symbol
GateName_1: G$1; SymbolName_1: CAP_POLARIZED; DeviceName: 139CLL-2W; DeviceSetName: CPOL-US; LibraryName: 3D_MIG_Controller; Package: 139CLL-2W
footprint 139CLL-2W
pins: +, -

## CPOL-US139CLL-3R
designator C?, comment POLARIZED CAPACITOR, American symbol
GateName_1: G$1; SymbolName_1: CAP_POLARIZED; DeviceName: 139CLL-3R; DeviceSetName: CPOL-US; LibraryName: 3D_MIG_Controller; Package: 139CLL-3R
footprint 139CLL-3R
pins: +, -

## CPOL-US139CLL-3W
designator C?, comment POLARIZED CAPACITOR, American symbol
GateName_1: G$1; SymbolName_1: CAP_POLARIZED; DeviceName: 139CLL-3W; DeviceSetName: CPOL-US; LibraryName: 3D_MIG_Controller; Package: 139CLL-3W
footprint 139CLL-3W
pins: +, -

## CPOL-US140CLH-0810
designator C?, comment POLARIZED CAPACITOR, American symbol
GateName_1: G$1; SymbolName_1: CAP_POLARIZED; DeviceName: 140CLH-0810; DeviceSetName: CPOL-US; LibraryName: 3D_MIG_Controller; Package: 140CLH-0810
footprint 140CLH-0810
pins: +, -

## CPOL-US140CLH-1010
designator C?, comment POLARIZED CAPACITOR, American symbol
GateName_1: G$1; SymbolName_1: CAP_POLARIZED; DeviceName: 140CLH-1010; DeviceSetName: CPOL-US; LibraryName: 3D_MIG_Controller; Package: 140CLH-1010
footprint 140CLH-1010
pins: +, -

## CPOL-US140CLH-1014
designator C?, comment POLARIZED CAPACITOR, American symbol
GateName_1: G$1; SymbolName_1: CAP_POLARIZED; DeviceName: 140CLH-1014; DeviceSetName: CPOL-US; LibraryName: 3D_MIG_Controller; Package: 140CLH-1014
footprint 140CLH-1014
pins: +, -

## CPOL-US150CLZ-0810
designator C?, comment POLARIZED CAPACITOR, American symbol
GateName_1: G$1; SymbolName_1: CAP_POLARIZED; DeviceName: 150CLZ-0810; DeviceSetName: CPOL-US; LibraryName: 3D_MIG_Controller; Package: 150CLZ-0810
footprint 150CLZ-0810
pins: +, -

## CPOL-US150CLZ-1010
designator C?, comment POLARIZED CAPACITOR, American symbol
GateName_1: G$1; SymbolName_1: CAP_POLARIZED; DeviceName: 150CLZ-1010; DeviceSetName: CPOL-US; LibraryName: 3D_MIG_Controller; Package: 150CLZ-1010
footprint 150CLZ-1010
pins: +, -

## CPOL-US150CLZ-1014
designator C?, comment POLARIZED CAPACITOR, American symbol
GateName_1: G$1; SymbolName_1: CAP_POLARIZED; DeviceName: 150CLZ-1014; DeviceSetName: CPOL-US; LibraryName: 3D_MIG_Controller; Package: 150CLZ-1014
footprint 150CLZ-1014
pins: +, -

## CPOL-US153CLV-0405
designator C?, comment POLARIZED CAPACITOR, American symbol
GateName_1: G$1; SymbolName_1: CAP_POLARIZED; DeviceName: 153CLV-0405; DeviceSetName: CPOL-US; LibraryName: 3D_MIG_Controller; Package: 153CLV-0405
footprint 153CLV-0405
pins: +, -

## CPOL-US153CLV-0505
designator C?, comment POLARIZED CAPACITOR, American symbol
GateName_1: G$1; SymbolName_1: CAP_POLARIZED; DeviceName: 153CLV-0505; DeviceSetName: CPOL-US; LibraryName: 3D_MIG_Controller; Package: 153CLV-0505
footprint 153CLV-0505
pins: +, -

## CPOL-US153CLV-0605
designator C?, comment POLARIZED CAPACITOR, American symbol
GateName_1: G$1; SymbolName_1: CAP_POLARIZED; DeviceName: 153CLV-0605; DeviceSetName: CPOL-US; LibraryName: 3D_MIG_Controller; Package: 153CLV-0605
footprint 153CLV-0605
pins: +, -

## CPOL-US153CLV-0807
designator C?, comment POLARIZED CAPACITOR, American symbol
GateName_1: G$1; SymbolName_1: CAP_POLARIZED; DeviceName: 153CLV-0807; DeviceSetName: CPOL-US; LibraryName: 3D_MIG_Controller; Package: 153CLV-0807
footprint 153CLV-0807
pins: +, -

## CPOL-US153CLV-0810
designator C?, comment POLARIZED CAPACITOR, American symbol
GateName_1: G$1; SymbolName_1: CAP_POLARIZED; DeviceName: 153CLV-0810; DeviceSetName: CPOL-US; LibraryName: 3D_MIG_Controller; Package: 153CLV-0810
footprint 153CLV-0810
pins: +, -

## CPOL-US153CLV-1010
designator C?, comment POLARIZED CAPACITOR, American symbol
GateName_1: G$1; SymbolName_1: CAP_POLARIZED; DeviceName: 153CLV-1010; DeviceSetName: CPOL-US; LibraryName: 3D_MIG_Controller; Package: 153CLV-1010
footprint 153CLV-1010
pins: +, -

## CPOL-US153CLV-1012
designator C?, comment POLARIZED CAPACITOR, American symbol
GateName_1: G$1; SymbolName_1: CAP_POLARIZED; DeviceName: 153CLV-1012; DeviceSetName: CPOL-US; LibraryName: 3D_MIG_Controller; Package: 153CLV-1012
footprint 153CLV-1012
pins: +, -

## CPOL-US153CLV-1014
designator C?, comment POLARIZED CAPACITOR, American symbol
GateName_1: G$1; SymbolName_1: CAP_POLARIZED; DeviceName: 153CLV-1014; DeviceSetName: CPOL-US; LibraryName: 3D_MIG_Controller; Package: 153CLV-1014
footprint 153CLV-1014
pins: +, -

## CPOL-US175TMP-0808
designator C?, comment POLARIZED CAPACITOR, American symbol
GateName_1: G$1; SymbolName_1: CAP_POLARIZED; DeviceName: 175TMP-0808; DeviceSetName: CPOL-US; LibraryName: 3D_MIG_Controller; Package: 175TMP-0808
footprint 175TMP-0808
pins: +, -

## CPOL-US175TMP-0810
designator C?, comment POLARIZED CAPACITOR, American symbol
GateName_1: G$1; SymbolName_1: CAP_POLARIZED; DeviceName: 175TMP-0810; DeviceSetName: CPOL-US; LibraryName: 3D_MIG_Controller; Package: 175TMP-0810
footprint 175TMP-0810
pins: +, -

## CPOL-USA
designator C?, comment POLARIZED CAPACITOR, American symbol
GateName_1: G$1; SymbolName_1: CAP_POLARIZED; DeviceName: A; DeviceSetName: CPOL-US; LibraryName: 3D_MIG_Controller; Package: PANASONIC_A
footprint PANASONIC_A
pins: +, -

## CPOL-USA/3216-18R
designator C?, comment POLARIZED CAPACITOR, American symbol
GateName_1: G$1; SymbolName_1: CAP_POLARIZED; DeviceName: A/3216-18R; DeviceSetName: CPOL-US; LibraryName: 3D_MIG_Controller; Package: A/3216-18R
footprint A/3216-18R
pins: +, -

## CPOL-USA/3216-18W
designator C?, comment POLARIZED CAPACITOR, American symbol
GateName_1: G$1; SymbolName_1: CAP_POLARIZED; DeviceName: A/3216-18W; DeviceSetName: CPOL-US; LibraryName: 3D_MIG_Controller; Package: A/3216-18W
footprint A/3216-18W
pins: +, -

## CPOL-USB
designator C?, comment POLARIZED CAPACITOR, American symbol
GateName_1: G$1; SymbolName_1: CAP_POLARIZED; DeviceName: B; DeviceSetName: CPOL-US; LibraryName: 3D_MIG_Controller; Package: PANASONIC_B
footprint PANASONIC_B
pins: +, -

## CPOL-USB45181A
designator C?, comment POLARIZED CAPACITOR, American symbol
GateName_1: G$1; SymbolName_1: CAP_POLARIZED; DeviceName: B45181A; DeviceSetName: CPOL-US; LibraryName: 3D_MIG_Controller; Package: B45181A
footprint B45181A
pins: +, -

## CPOL-USB45181B
designator C?, comment POLARIZED CAPACITOR, American symbol
GateName_1: G$1; SymbolName_1: CAP_POLARIZED; DeviceName: B45181B; DeviceSetName: CPOL-US; LibraryName: 3D_MIG_Controller; Package: B45181B
footprint B45181B
pins: +, -

## CPOL-USB45181C
designator C?, comment POLARIZED CAPACITOR, American symbol
GateName_1: G$1; SymbolName_1: CAP_POLARIZED; DeviceName: B45181C; DeviceSetName: CPOL-US; LibraryName: 3D_MIG_Controller; Package: B45181C
footprint B45181C
pins: +, -

## CPOL-USB45181D
designator C?, comment POLARIZED CAPACITOR, American symbol
GateName_1: G$1; SymbolName_1: CAP_POLARIZED; DeviceName: B45181D; DeviceSetName: CPOL-US; LibraryName: 3D_MIG_Controller; Package: B45181D
footprint B45181D
pins: +, -

## CPOL-USB/3528-21R
designator C?, comment POLARIZED CAPACITOR, American symbol
GateName_1: G$1; SymbolName_1: CAP_POLARIZED; DeviceName: B/3528-21R; DeviceSetName: CPOL-US; LibraryName: 3D_MIG_Controller; Package: T/3528-12R
footprint T/3528-12R
pins: +, -

## CPOL-USB/3528-21W
designator C?, comment POLARIZED CAPACITOR, American symbol
GateName_1: G$1; SymbolName_1: CAP_POLARIZED; DeviceName: B/3528-21W; DeviceSetName: CPOL-US; LibraryName: 3D_MIG_Controller; Package: B/3528-21W
footprint B/3528-21W
pins: +, -

## CPOL-USC
designator C?, comment POLARIZED CAPACITOR, American symbol
GateName_1: G$1; SymbolName_1: CAP_POLARIZED; DeviceName: C; DeviceSetName: CPOL-US; LibraryName: 3D_MIG_Controller; Package: PANASONIC_C
footprint PANASONIC_C
pins: +, -

## CPOL-USC/6032-28R
designator C?, comment POLARIZED CAPACITOR, American symbol
GateName_1: G$1; SymbolName_1: CAP_POLARIZED; DeviceName: C/6032-28R; DeviceSetName: CPOL-US; LibraryName: 3D_MIG_Controller; Package: C/6032-28R
footprint C/6032-28R
pins: +, -

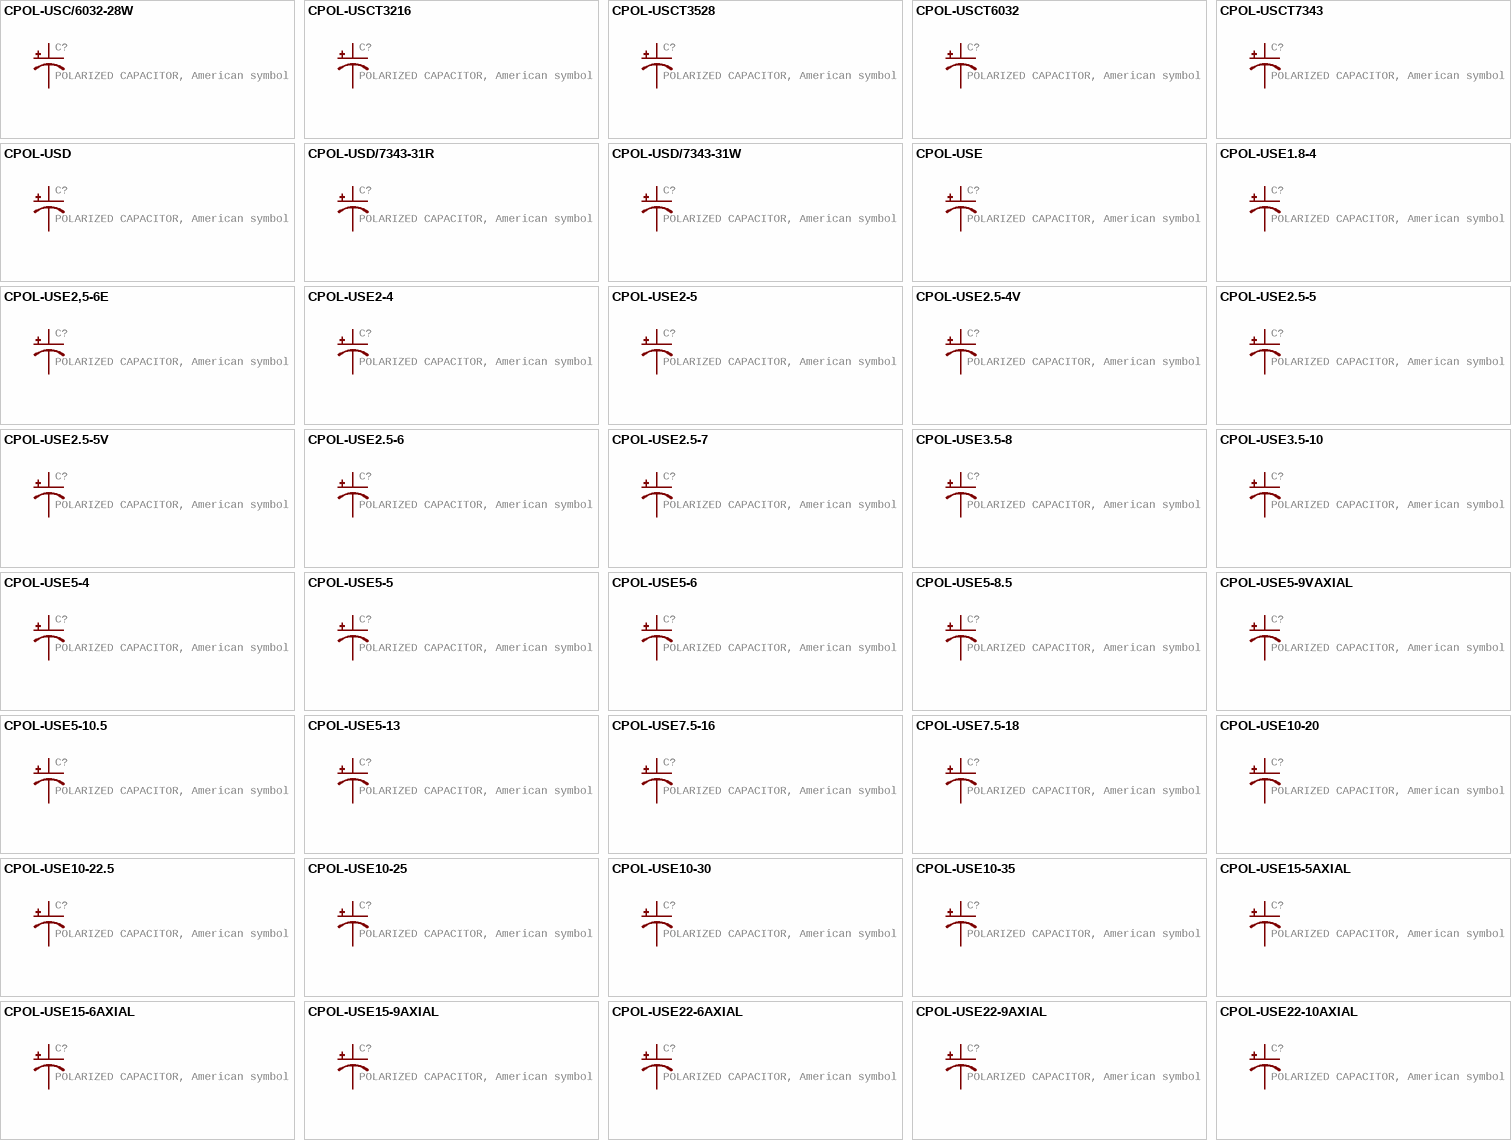
[diagram p9: symbols CPOL-USC/6032-28W to CPOL-USE22-10AXIAL]

## CPOL-USC/6032-28W
designator C?, comment POLARIZED CAPACITOR, American symbol
GateName_1: G$1; SymbolName_1: CAP_POLARIZED; DeviceName: C/6032-28W; DeviceSetName: CPOL-US; LibraryName: 3D_MIG_Controller; Package: C/6032-28W
footprint C/6032-28W
pins: +, -

## CPOL-USCT3216
designator C?, comment POLARIZED CAPACITOR, American symbol
GateName_1: G$1; SymbolName_1: CAP_POLARIZED; DeviceName: CT3216; DeviceSetName: CPOL-US; LibraryName: 3D_MIG_Controller; Package: CT3216
footprint CT3216
pins: + -, - +

## CPOL-USCT3528
designator C?, comment POLARIZED CAPACITOR, American symbol
GateName_1: G$1; SymbolName_1: CAP_POLARIZED; DeviceName: CT3528; DeviceSetName: CPOL-US; LibraryName: 3D_MIG_Controller; Package: CT3528
footprint CT3528
pins: + -, - +

## CPOL-USCT6032
designator C?, comment POLARIZED CAPACITOR, American symbol
GateName_1: G$1; SymbolName_1: CAP_POLARIZED; DeviceName: CT6032; DeviceSetName: CPOL-US; LibraryName: 3D_MIG_Controller; Package: CT6032
footprint CT6032
pins: + -, - +

## CPOL-USCT7343
designator C?, comment POLARIZED CAPACITOR, American symbol
GateName_1: G$1; SymbolName_1: CAP_POLARIZED; DeviceName: CT7343; DeviceSetName: CPOL-US; LibraryName: 3D_MIG_Controller; Package: CT7343
footprint CT7343
pins: +, -

## CPOL-USD
designator C?, comment POLARIZED CAPACITOR, American symbol
GateName_1: G$1; SymbolName_1: CAP_POLARIZED; DeviceName: D; DeviceSetName: CPOL-US; LibraryName: 3D_MIG_Controller; Package: PANASONIC_D
footprint PANASONIC_D
pins: +, -

## CPOL-USD/7343-31R
designator C?, comment POLARIZED CAPACITOR, American symbol
GateName_1: G$1; SymbolName_1: CAP_POLARIZED; DeviceName: D/7343-31R; DeviceSetName: CPOL-US; LibraryName: 3D_MIG_Controller; Package: D/7343-31R
footprint D/7343-31R
pins: +, -

## CPOL-USD/7343-31W
designator C?, comment POLARIZED CAPACITOR, American symbol
GateName_1: G$1; SymbolName_1: CAP_POLARIZED; DeviceName: D/7343-31W; DeviceSetName: CPOL-US; LibraryName: 3D_MIG_Controller; Package: D/7343-31W
footprint D/7343-31W
pins: +, -

## CPOL-USE
designator C?, comment POLARIZED CAPACITOR, American symbol
GateName_1: G$1; SymbolName_1: CAP_POLARIZED; DeviceName: E; DeviceSetName: CPOL-US; LibraryName: 3D_MIG_Controller; Package: PANASONIC_E
footprint PANASONIC_E
pins: +, -

## CPOL-USE1.8-4
designator C?, comment POLARIZED CAPACITOR, American symbol
GateName_1: G$1; SymbolName_1: CAP_POLARIZED; DeviceName: E1.8-4; DeviceSetName: CPOL-US; LibraryName: 3D_MIG_Controller; Package: E1,8-4
footprint E1,8-4
pins: +, -

## CPOL-USE2,5-6E
designator C?, comment POLARIZED CAPACITOR, American symbol
GateName_1: G$1; SymbolName_1: CAP_POLARIZED; DeviceName: E2,5-6E; DeviceSetName: CPOL-US; LibraryName: 3D_MIG_Controller; Package: E2,5-6E
footprint E2,5-6E
pins: +, -

## CPOL-USE2-4
designator C?, comment POLARIZED CAPACITOR, American symbol
GateName_1: G$1; SymbolName_1: CAP_POLARIZED; DeviceName: E2-4; DeviceSetName: CPOL-US; LibraryName: 3D_MIG_Controller; Package: E2-4
footprint E2-4
pins: +, -

## CPOL-USE2-5
designator C?, comment POLARIZED CAPACITOR, American symbol
GateName_1: G$1; SymbolName_1: CAP_POLARIZED; DeviceName: E2-5; DeviceSetName: CPOL-US; LibraryName: 3D_MIG_Controller; Package: E2-5
footprint E2-5
pins: +, -

## CPOL-USE2.5-4V
designator C?, comment POLARIZED CAPACITOR, American symbol
GateName_1: G$1; SymbolName_1: CAP_POLARIZED; DeviceName: E2.5-4V; DeviceSetName: CPOL-US; LibraryName: 3D_MIG_Controller; Package: E2,5RE
footprint E2,5RE
pins: +, -

## CPOL-USE2.5-5
designator C?, comment POLARIZED CAPACITOR, American symbol
GateName_1: G$1; SymbolName_1: CAP_POLARIZED; DeviceName: E2.5-5; DeviceSetName: CPOL-US; LibraryName: 3D_MIG_Controller; Package: E2,5-5
footprint E2,5-5
pins: +, -

## CPOL-USE2.5-5V
designator C?, comment POLARIZED CAPACITOR, American symbol
GateName_1: G$1; SymbolName_1: CAP_POLARIZED; DeviceName: E2.5-5V; DeviceSetName: CPOL-US; LibraryName: 3D_MIG_Controller; Package: E2,5-4R
footprint E2,5-4R
pins: +, -

## CPOL-USE2.5-6
designator C?, comment POLARIZED CAPACITOR, American symbol
GateName_1: G$1; SymbolName_1: CAP_POLARIZED; DeviceName: E2.5-6; DeviceSetName: CPOL-US; LibraryName: 3D_MIG_Controller; Package: E2,5-6
footprint E2,5-6
pins: +, -

## CPOL-USE2.5-7
designator C?, comment POLARIZED CAPACITOR, American symbol
GateName_1: G$1; SymbolName_1: CAP_POLARIZED; DeviceName: E2.5-7; DeviceSetName: CPOL-US; LibraryName: 3D_MIG_Controller; Package: E2,5-7
footprint E2,5-7
pins: +, -

## CPOL-USE3.5-8
designator C?, comment POLARIZED CAPACITOR, American symbol
GateName_1: G$1; SymbolName_1: CAP_POLARIZED; DeviceName: E3.5-8; DeviceSetName: CPOL-US; LibraryName: 3D_MIG_Controller; Package: E3,5-8
footprint E3,5-8
pins: +, -

## CPOL-USE3.5-10
designator C?, comment POLARIZED CAPACITOR, American symbol
GateName_1: G$1; SymbolName_1: CAP_POLARIZED; DeviceName: E3.5-10; DeviceSetName: CPOL-US; LibraryName: 3D_MIG_Controller; Package: E3,5-10
footprint E3,5-10
pins: +, -

## CPOL-USE5-4
designator C?, comment POLARIZED CAPACITOR, American symbol
GateName_1: G$1; SymbolName_1: CAP_POLARIZED; DeviceName: E5-4; DeviceSetName: CPOL-US; LibraryName: 3D_MIG_Controller; Package: E5-4
footprint E5-4
pins: +, -

## CPOL-USE5-5
designator C?, comment POLARIZED CAPACITOR, American symbol
GateName_1: G$1; SymbolName_1: CAP_POLARIZED; DeviceName: E5-5; DeviceSetName: CPOL-US; LibraryName: 3D_MIG_Controller; Package: E5-5
footprint E5-5
pins: +, -

## CPOL-USE5-6
designator C?, comment POLARIZED CAPACITOR, American symbol
GateName_1: G$1; SymbolName_1: CAP_POLARIZED; DeviceName: E5-6; DeviceSetName: CPOL-US; LibraryName: 3D_MIG_Controller; Package: E5-6
footprint E5-6
pins: +, -

## CPOL-USE5-8.5
designator C?, comment POLARIZED CAPACITOR, American symbol
GateName_1: G$1; SymbolName_1: CAP_POLARIZED; DeviceName: E5-8.5; DeviceSetName: CPOL-US; LibraryName: 3D_MIG_Controller; Package: E5-8,5
footprint E5-8,5
pins: +, -

## CPOL-USE5-9VAXIAL
designator C?, comment POLARIZED CAPACITOR, American symbol
GateName_1: G$1; SymbolName_1: CAP_POLARIZED; DeviceName: E5-9VAXIAL; DeviceSetName: CPOL-US; LibraryName: 3D_MIG_Controller; Package: E5R
footprint E5R
pins: +, -

## CPOL-USE5-10.5
designator C?, comment POLARIZED CAPACITOR, American symbol
GateName_1: G$1; SymbolName_1: CAP_POLARIZED; DeviceName: E5-10.5; DeviceSetName: CPOL-US; LibraryName: 3D_MIG_Controller; Package: E5-10,5
footprint E5-10,5
pins: +, -

## CPOL-USE5-13
designator C?, comment POLARIZED CAPACITOR, American symbol
GateName_1: G$1; SymbolName_1: CAP_POLARIZED; DeviceName: E5-13; DeviceSetName: CPOL-US; LibraryName: 3D_MIG_Controller; Package: E5-13
footprint E5-13
pins: +, -

## CPOL-USE7.5-16
designator C?, comment POLARIZED CAPACITOR, American symbol
GateName_1: G$1; SymbolName_1: CAP_POLARIZED; DeviceName: E7.5-16; DeviceSetName: CPOL-US; LibraryName: 3D_MIG_Controller; Package: E7,5-16
footprint E7,5-16
pins: +, -

## CPOL-USE7.5-18
designator C?, comment POLARIZED CAPACITOR, American symbol
GateName_1: G$1; SymbolName_1: CAP_POLARIZED; DeviceName: E7.5-18; DeviceSetName: CPOL-US; LibraryName: 3D_MIG_Controller; Package: E7,5-18
footprint E7,5-18
pins: +, -

## CPOL-USE10-20
designator C?, comment POLARIZED CAPACITOR, American symbol
GateName_1: G$1; SymbolName_1: CAP_POLARIZED; DeviceName: E10-20; DeviceSetName: CPOL-US; LibraryName: 3D_MIG_Controller; Package: EB20D
footprint EB20D
pins: +, -

## CPOL-USE10-22.5
designator C?, comment POLARIZED CAPACITOR, American symbol
GateName_1: G$1; SymbolName_1: CAP_POLARIZED; DeviceName: E10-22.5; DeviceSetName: CPOL-US; LibraryName: 3D_MIG_Controller; Package: EB22,5D
footprint EB22,5D
pins: +, -

## CPOL-USE10-25
designator C?, comment POLARIZED CAPACITOR, American symbol
GateName_1: G$1; SymbolName_1: CAP_POLARIZED; DeviceName: E10-25; DeviceSetName: CPOL-US; LibraryName: 3D_MIG_Controller; Package: EB25D
footprint EB25D
pins: +, -

## CPOL-USE10-30
designator C?, comment POLARIZED CAPACITOR, American symbol
GateName_1: G$1; SymbolName_1: CAP_POLARIZED; DeviceName: E10-30; DeviceSetName: CPOL-US; LibraryName: 3D_MIG_Controller; Package: EB30D
footprint EB30D
pins: +, -

## CPOL-USE10-35
designator C?, comment POLARIZED CAPACITOR, American symbol
GateName_1: G$1; SymbolName_1: CAP_POLARIZED; DeviceName: E10-35; DeviceSetName: CPOL-US; LibraryName: 3D_MIG_Controller; Package: EB35D
footprint EB35D
pins: +, -

## CPOL-USE15-5AXIAL
designator C?, comment POLARIZED CAPACITOR, American symbol
GateName_1: G$1; SymbolName_1: CAP_POLARIZED; DeviceName: E15-5AXIAL; DeviceSetName: CPOL-US; LibraryName: 3D_MIG_Controller; Package: E15-5
footprint E15-5
pins: +, -

## CPOL-USE15-6AXIAL
designator C?, comment POLARIZED CAPACITOR, American symbol
GateName_1: G$1; SymbolName_1: CAP_POLARIZED; DeviceName: E15-6AXIAL; DeviceSetName: CPOL-US; LibraryName: 3D_MIG_Controller; Package: E15-6
footprint E15-6
pins: +, -

## CPOL-USE15-9AXIAL
designator C?, comment POLARIZED CAPACITOR, American symbol
GateName_1: G$1; SymbolName_1: CAP_POLARIZED; DeviceName: E15-9AXIAL; DeviceSetName: CPOL-US; LibraryName: 3D_MIG_Controller; Package: E15-9
footprint E15-9
pins: +, -

## CPOL-USE22-6AXIAL
designator C?, comment POLARIZED CAPACITOR, American symbol
GateName_1: G$1; SymbolName_1: CAP_POLARIZED; DeviceName: E22-6AXIAL; DeviceSetName: CPOL-US; LibraryName: 3D_MIG_Controller; Package: E22-6
footprint E22-6
pins: +, -

## CPOL-USE22-9AXIAL
designator C?, comment POLARIZED CAPACITOR, American symbol
GateName_1: G$1; SymbolName_1: CAP_POLARIZED; DeviceName: E22-9AXIAL; DeviceSetName: CPOL-US; LibraryName: 3D_MIG_Controller; Package: E22-9
footprint E22-9
pins: +, -

## CPOL-USE22-10AXIAL
designator C?, comment POLARIZED CAPACITOR, American symbol
GateName_1: G$1; SymbolName_1: CAP_POLARIZED; DeviceName: E22-10AXIAL; DeviceSetName: CPOL-US; LibraryName: 3D_MIG_Controller; Package: E22-10
footprint E22-10
pins: +, -

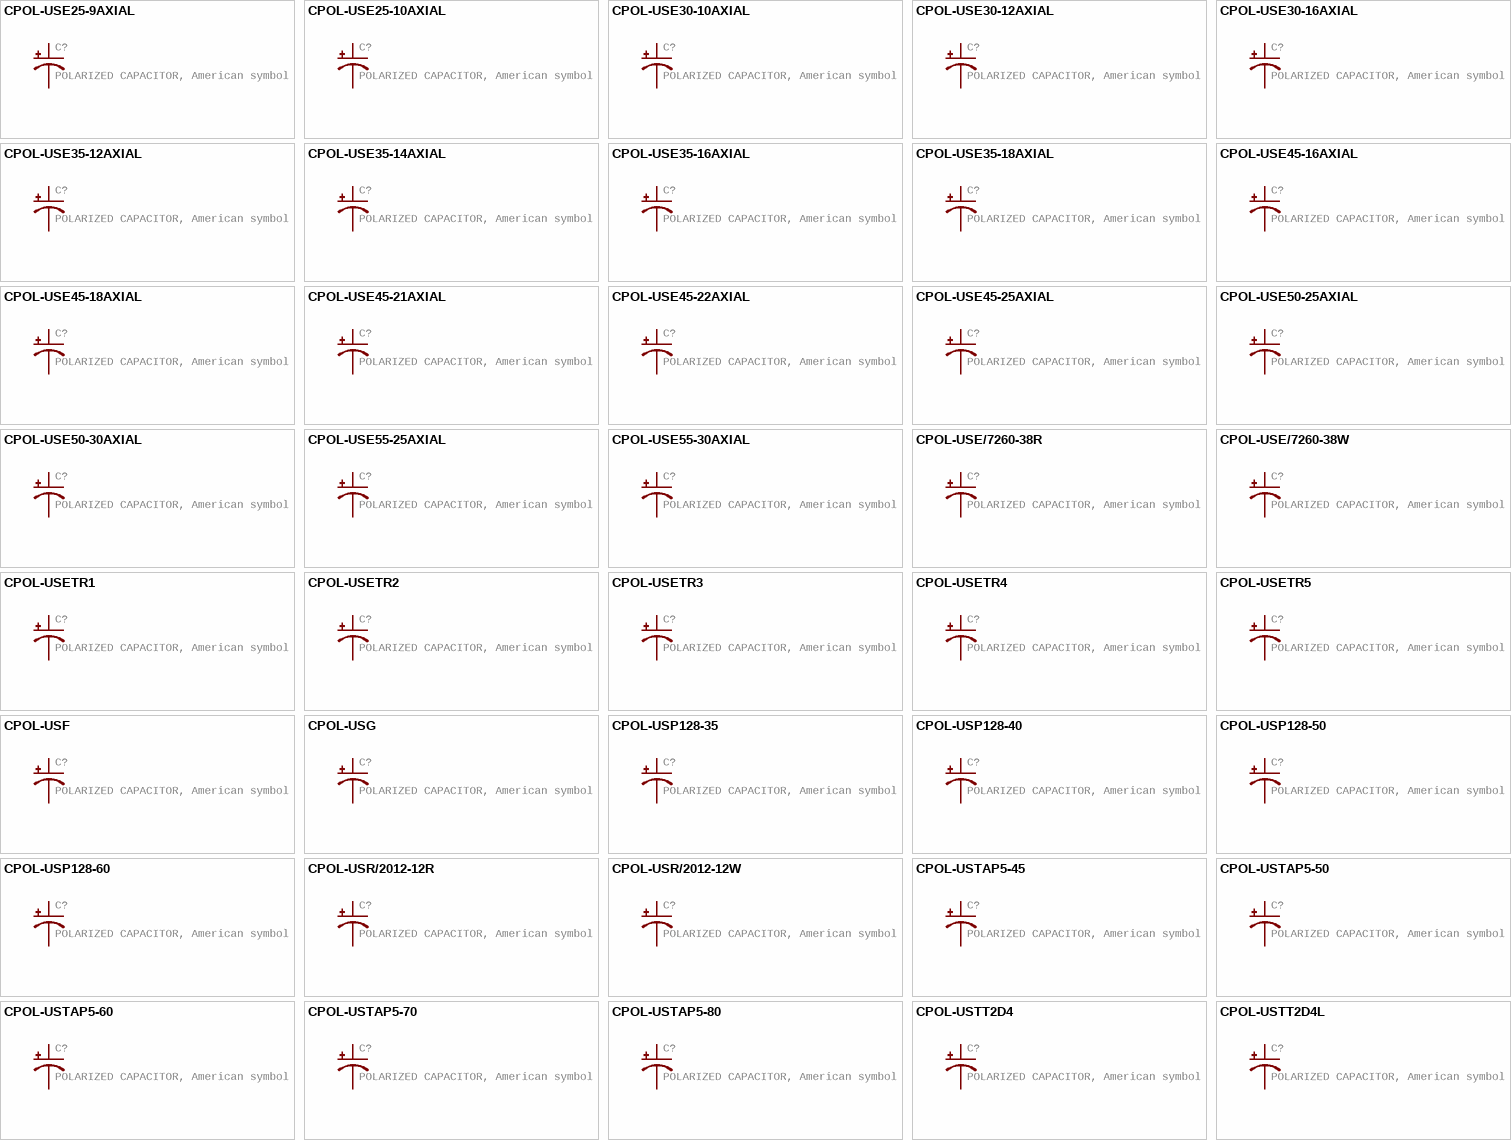
[diagram p10: symbols CPOL-USE25-9AXIAL to CPOL-USTT2D4L]

## CPOL-USE25-9AXIAL
designator C?, comment POLARIZED CAPACITOR, American symbol
GateName_1: G$1; SymbolName_1: CAP_POLARIZED; DeviceName: E25-9AXIAL; DeviceSetName: CPOL-US; LibraryName: 3D_MIG_Controller; Package: E25-9
footprint E25-9
pins: +, -

## CPOL-USE25-10AXIAL
designator C?, comment POLARIZED CAPACITOR, American symbol
GateName_1: G$1; SymbolName_1: CAP_POLARIZED; DeviceName: E25-10AXIAL; DeviceSetName: CPOL-US; LibraryName: 3D_MIG_Controller; Package: E25-10
footprint E25-10
pins: +, -

## CPOL-USE30-10AXIAL
designator C?, comment POLARIZED CAPACITOR, American symbol
GateName_1: G$1; SymbolName_1: CAP_POLARIZED; DeviceName: E30-10AXIAL; DeviceSetName: CPOL-US; LibraryName: 3D_MIG_Controller; Package: E30-10
footprint E30-10
pins: +, -

## CPOL-USE30-12AXIAL
designator C?, comment POLARIZED CAPACITOR, American symbol
GateName_1: G$1; SymbolName_1: CAP_POLARIZED; DeviceName: E30-12AXIAL; DeviceSetName: CPOL-US; LibraryName: 3D_MIG_Controller; Package: E30-12
footprint E30-12
pins: +, -

## CPOL-USE30-16AXIAL
designator C?, comment POLARIZED CAPACITOR, American symbol
GateName_1: G$1; SymbolName_1: CAP_POLARIZED; DeviceName: E30-16AXIAL; DeviceSetName: CPOL-US; LibraryName: 3D_MIG_Controller; Package: E30-16
footprint E30-16
pins: +, -

## CPOL-USE35-12AXIAL
designator C?, comment POLARIZED CAPACITOR, American symbol
GateName_1: G$1; SymbolName_1: CAP_POLARIZED; DeviceName: E35-12AXIAL; DeviceSetName: CPOL-US; LibraryName: 3D_MIG_Controller; Package: E35-12
footprint E35-12
pins: +, -

## CPOL-USE35-14AXIAL
designator C?, comment POLARIZED CAPACITOR, American symbol
GateName_1: G$1; SymbolName_1: CAP_POLARIZED; DeviceName: E35-14AXIAL; DeviceSetName: CPOL-US; LibraryName: 3D_MIG_Controller; Package: E35-14
footprint E35-14
pins: +, -

## CPOL-USE35-16AXIAL
designator C?, comment POLARIZED CAPACITOR, American symbol
GateName_1: G$1; SymbolName_1: CAP_POLARIZED; DeviceName: E35-16AXIAL; DeviceSetName: CPOL-US; LibraryName: 3D_MIG_Controller; Package: E35-16
footprint E35-16
pins: +, -

## CPOL-USE35-18AXIAL
designator C?, comment POLARIZED CAPACITOR, American symbol
GateName_1: G$1; SymbolName_1: CAP_POLARIZED; DeviceName: E35-18AXIAL; DeviceSetName: CPOL-US; LibraryName: 3D_MIG_Controller; Package: E35-18
footprint E35-18
pins: +, -